# Altium footprint library BBCMP-P10-L1270W2032.PcbLib: 1 footprints
Each footprint in its own frame and in the unit in brackets; x right, y up, seen from the top. Pads: shape width x height; smd on the part's side, far side on the other; paste and mask are expansions set on the pad; w line width, h text height; cw(c..) or ccw(c..) is an arc to the next point about the centre after c.
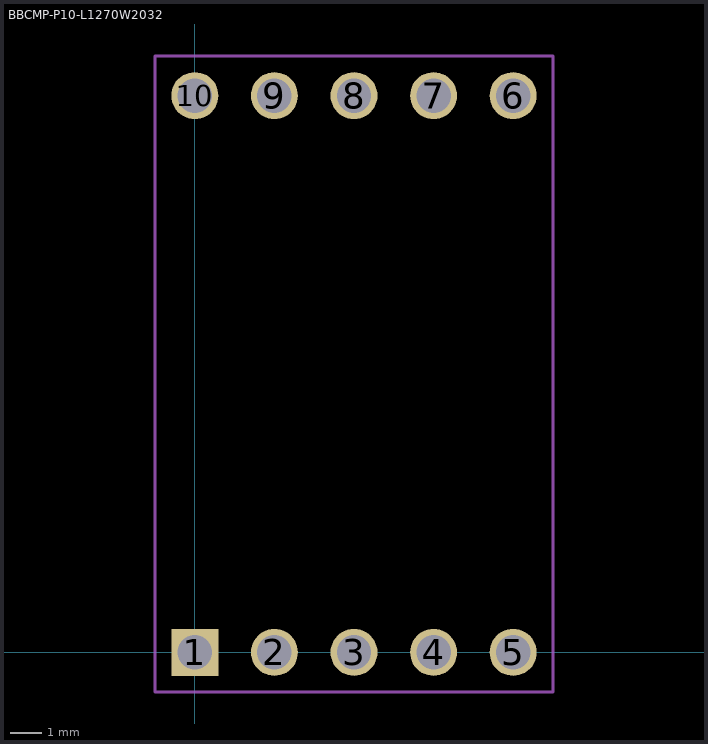
[diagram p0: the footprint, top view; thin cyan lines are the x and y axes]

## BBCMP-P10-L1270W2032 [mm] "BB component, length 12.7mm width, 20.32mm high"
pads (10):
  rect 1.5x1.5 hole 1.1: 1(0,0)
  round 1.5 hole 1.1: 2(2.54,0) 3(5.08,0) 4(7.62,0) 5(10.16,0) 6(10.16,17.78) 7(7.62,17.78) 8(5.08,17.78) 9(2.54,17.78) 10(0,17.78)
Mechanical 13:
  lines w0.1: -1.27,-1.27 -1.27,19.05 11.43,19.05 11.43,-1.27 -1.27,-1.27
Mechanical 15:
  lines w0.1: -1.27,-1.27 -1.27,19.05 11.43,19.05 11.43,-1.27 -1.27,-1.27
3D body: height 2.59, standoff -8.95, extent -1.27,-1.27 11.43,1.27
3D body: height 2.59, standoff -8.95, extent -1.27,16.51 11.43,19.05